# Altium schematic symbol library MH-G6.SchLib: 1 symbol
Pins are listed as number, name and electrical type; pins without a type are passive.

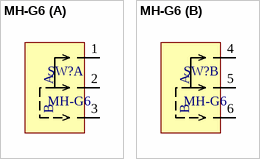
[diagram p0: symbol MH-G6]

## MH-G6
designator SW?
6-pin switch MH-G6 2.54mm
footprint MH-G6
part A pins: 1 A, 2 COM, 3 B
part B pins: 4 A, 5 COM, 6 B